# Altium footprint library Terminal Blocks - Headers, Plugs and Sockets.PcbLib: 2 footprints
Each footprint in its own frame and in the unit in brackets; x right, y up, seen from the top. Pads: shape width x height; smd on the part's side, far side on the other; paste and mask are expansions set on the pad; w line width, h text height; cw(c..) or ccw(c..) is an arc to the next point about the centre after c.
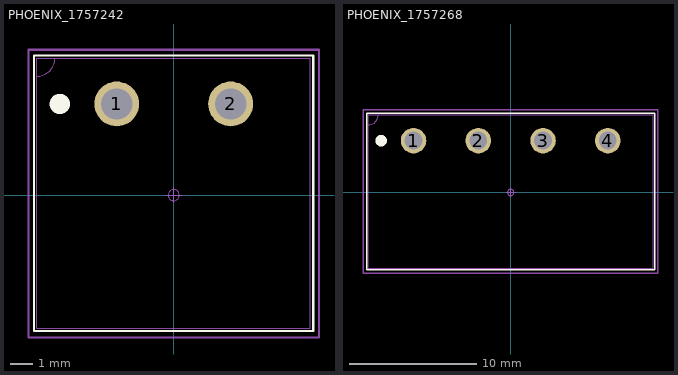
[diagram p0: the footprints below, top view; thin cyan lines are the x and y axes]

## PHOENIX_1757242 [mm]
pads (2):
  round 2 hole 1.4 mask+0: 1(-2.54,4.064) 2(2.54,4.064)
Top Overlay:
  circle w0.5: c-5.08,4.064 r0.2
  lines w0.1: -6.223,-6.052 -6.223,6.223 6.223,6.223 6.223,-6.052 -6.223,-6.052
Mechanical 13:
  lines w0.025: -6.096,5.296 ccw(c-6.096,6.096) -5.296,6.096 ; -6.096,-5.925 -6.096,6.096 6.096,6.096 6.096,-5.925 -6.096,-5.925
Mechanical 15:
  circle w0.05: c0,0 r0.25
  lines w0.05: -0.35,0 0.35,0 ; 0,-0.35 0,0.35
  lines w0.1: -6.477,-6.35 6.477,-6.35 6.477,6.477 -6.477,6.477 -6.477,-6.35
3D body: height 0.25, standoff 0, extent -2.54,4.064 -2.286,4.318
3D body "pxc_1757242_06_MSTBA-2-5-2-G-5-08_3D.stp": height 8.7, standoff -3.4, extent -6.08,-5.906 6.08,6.096

## PHOENIX_1757268 [mm]
pads (4):
  round 2 hole 1.4 mask+0: 1(-7.62,4.064) 2(-2.54,4.064) 3(2.54,4.064) 4(7.62,4.064)
Top Overlay:
  circle w0.5: c-10.16,4.064 r0.2
  lines w0.1: -11.303,-6.052 -11.303,6.223 11.303,6.223 11.303,-6.052 -11.303,-6.052
Mechanical 13:
  lines w0.025: -11.176,5.296 ccw(c-11.176,6.096) -10.376,6.096 ; -11.176,-5.925 11.176,-5.925 11.176,6.096 -11.176,6.096 -11.176,-5.925
Mechanical 15:
  circle w0.05: c0,0 r0.25
  lines w0.05: -0.35,0 0.35,0 ; 0,-0.35 0,0.35
  lines w0.1: -11.557,-6.35 -11.557,6.477 11.557,6.477 11.557,-6.35 -11.557,-6.35
3D body "pxc_1757268_06_MSTBA-2-5-4-G-5-08_3D.stp": height 8.7, standoff -3.4, extent -11.16,-5.906 11.16,6.096